# EAGLE library part LED8X8 (library jocki)
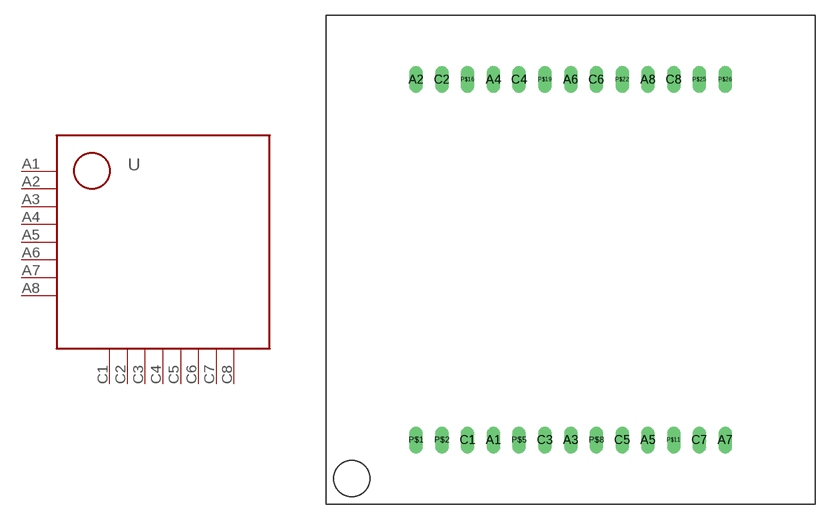
[diagram p0: symbol with the pads of LED8X8; footprint LED8X8]

Designator prefix -

## LED8X8  [LED8X8]
A1  A1  pas
A2  A2  pas
A3  A3  pas
A4  A4  pas
A5  A5  pas
A6  A6  pas
A7  A7  pas
A8  A8  pas
C1  C1  pas
C2  C2  pas
C3  C3  pas
C4  C4  pas
C5  C5  pas
C6  C6  pas
C7  C7  pas
C8  C8  pas

## Footprint LED8X8 (pad centres in mm)
drill 0.8 long: A1 -7.62,-17.78; A2 -15.24,17.78; A3 0,-17.78; A4 -7.62,17.78; A5 7.62,-17.78; A6 0,17.78; A7 15.24,-17.78; A8 7.62,17.78; C1 -10.16,-17.78; C2 -12.7,17.78; C3 -2.54,-17.78; C4 -5.08,17.78; C5 5.08,-17.78; C6 2.54,17.78; C7 12.7,-17.78; C8 10.16,17.78; P$1 -15.24,-17.78; P$2 -12.7,-17.78; P$5 -5.08,-17.78; P$8 2.54,-17.78; P$11 10.16,-17.78; P$16 -10.16,17.78; P$19 -2.54,17.78; P$22 5.08,17.78; P$25 12.7,17.78; P$26 15.24,17.78